# Altium footprint library lib_footprint.PcbLib: 22 footprints (part 1 of 2)
Each footprint in its own frame and in the unit in brackets; x right, y up, seen from the top. Pads: shape width x height; smd on the part's side, far side on the other; paste and mask are expansions set on the pad; w line width, h text height; cw(c..) or ccw(c..) is an arc to the next point about the centre after c.
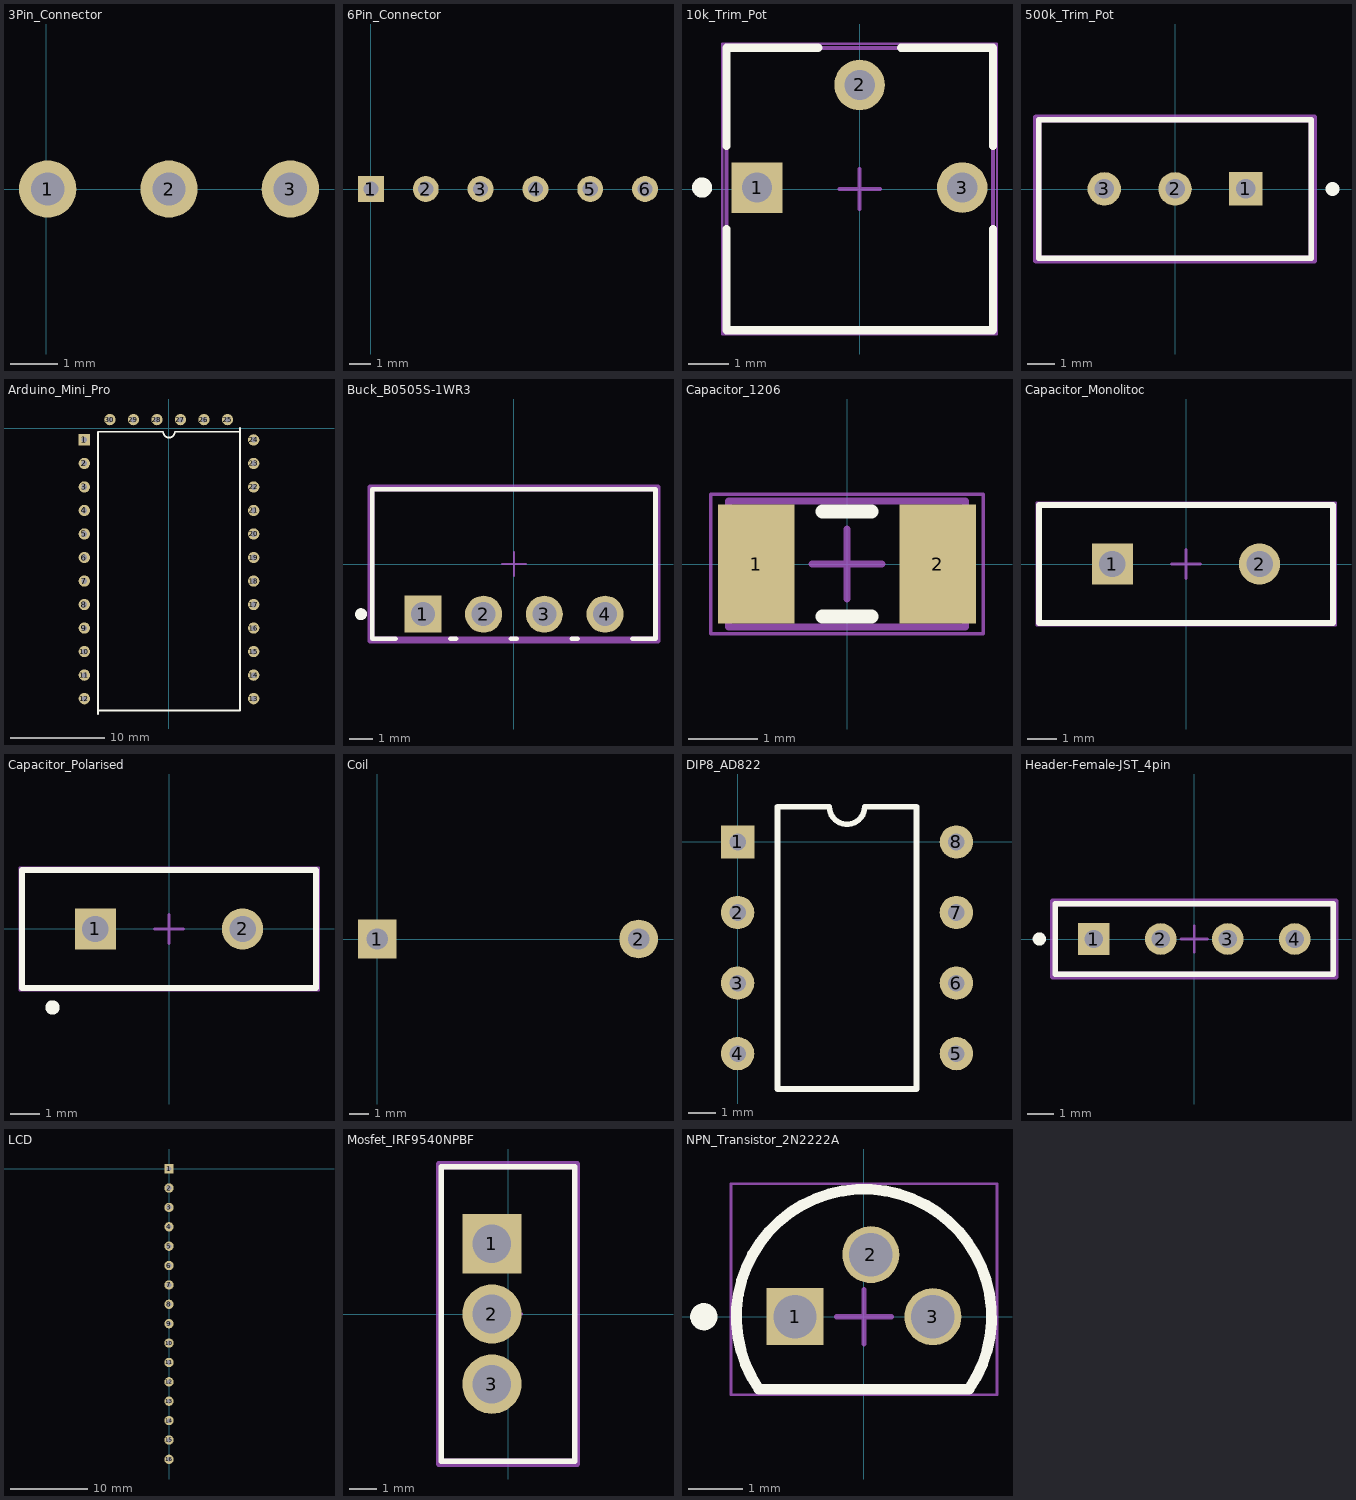
[diagram p0: the footprints below, top view; thin cyan lines are the x and y axes]

## 3Pin_Connector [mm]
pads (3):
  round 1.2 hole 0.7 paste-2539.97 mask+0: 1(0.025,0) 2(2.565,0) 3(5.105,0)

## 6Pin_Connector [mm]
pads (6):
  rect 1.2x1.2 hole 0.7 paste-2539.97 mask+0: 1(0,0)
  round 1.2 hole 0.7 paste-2539.97 mask+0: 2(2.54,0) 3(5.08,0) 4(7.62,0) 5(10.16,0) 6(12.7,0)

## 10k_Trim_Pot [mm]
height 4.95
pads (3):
  rect 1.25x1.25 hole 0.75: 1(-2.54,0.035)
  round 1.25 hole 0.75: 2(0,2.575) 3(2.54,0.035)
Top Overlay:
  circle w0.25: c-3.9,0.035 r0.125
  lines w0.2: -3.3,-0.99 -3.3,-3.495 3.3,-3.495 3.3,-0.99 ; -3.3,1.06 -3.3,3.495 -1.025,3.495 ; 1.025,3.495 3.3,3.495 3.3,1.06
Top 3D Body:
  lines w0.1: -3.3,-3.495 -3.3,3.495 3.3,3.495 3.3,-3.495 -3.3,-3.495
Top Courtyard:
  lines w0.05: -3.4,-3.595 3.4,-3.595 3.4,3.595 -3.4,3.595 -3.4,-3.595
  lines w0.1: -0.5,0 0.5,0 ; 0,-0.5 0,0.5
3D body: height 4.95, standoff 0, extent -3.299,-3.494 3.299,3.494

## 500k_Trim_Pot [mm]
pads (3):
  rect 1.2x1.2 hole 0.7 paste-2539.97 mask+0: 1(2.54,0.005)
  round 1.2 hole 0.7 paste-2539.97 mask+0: 2(0,0.005) 3(-2.54,0.005)
Top Overlay:
  circle w0.25: c5.65,0 r0.125
  lines w0.2: -4.89,-2.48 -4.89,2.48 4.89,2.48 4.89,-2.48 -4.89,-2.48
Top Assembly:
  lines w0.2: -4.99,-2.58 -4.99,2.58 4.99,2.58 4.99,-2.58 -4.99,-2.58
  text ".Designator" at 0,-0.001 h1
Top 3D Body:
  lines w0.2: -4.89,-2.48 -4.89,2.48 4.89,2.48 4.89,-2.48 -4.89,-2.48
Top Courtyard:
  lines w0.2: -4.99,-2.58 -4.99,2.58 4.99,2.58 4.99,-2.58 -4.99,-2.58
Top Component Center:
  lines w0.1: -0.5,0 0.5,0 ; 0,-0.5 0,0.5
3D body "Res_Bourns_3296W-1-504LF_eec.STEP": height 0.25, standoff 0, extent -4.99,-2.58 4.99,2.58

## Arduino_Mini_Pro [mm]
pads (30):
  rect 1.2x1.2 hole 0.6: 1(-8.992,-1.245)
  round 1.2 hole 0.6: 2(-8.992,-3.745) 3(-8.992,-6.245) 4(-8.992,-8.745) 5(-8.992,-11.245) 6(-8.992,-13.745) 7(-8.992,-16.245) 8(-8.992,-18.745) 9(-8.992,-21.245) 10(-8.992,-23.745) 11(-8.992,-26.245) 12(-8.992,-28.745) 13(9.008,-28.745) 14(9.008,-26.245) 15(9.008,-23.745) 16(9.008,-21.245) 17(9.008,-18.745) 18(9.008,-16.245) 19(9.008,-13.745) 20(9.008,-11.245) 21(9.008,-8.745) 22(9.008,-6.245) 23(9.008,-3.745) 24(9.008,-1.245) 25(6.226,0.906) 26(3.726,0.906) 27(1.226,0.906) 28(-1.274,0.906) 29(-3.774,0.906) 30(-6.274,0.906)
Top Overlay:
  lines w0.2: -7.557,-30.376 -7.557,-0.376 -0.617,-0.376 ccw(c0.008,-0.376) 0.633,-0.376 7.573,-0.376 ; -7.557,-29.995 7.573,-29.995 7.573,0.005

## Buck_B0505S-1WR3 [mm]
pads (4):
  rect 1.55x1.55 hole 1 paste-2539.97 mask+0: 1(-3.81,-2.1)
  round 1.55 hole 1 paste-2539.97 mask+0: 2(-1.27,-2.1) 3(1.27,-2.1) 4(3.81,-2.1)
Top Overlay:
  circle w0.25: c-6.4,-2.1 r0.125
  lines w0.2: -4.96,-3.125 -5.925,-3.125 -5.925,3.125 5.925,3.125 5.925,-3.125 4.96,-3.125 ; -2.66,-3.125 -2.42,-3.125 ; -0.12,-3.125 0.12,-3.125 ; 2.42,-3.125 2.66,-3.125
Top Assembly:
  lines w0.2: -6.025,-3.225 -6.025,3.225 6.025,3.225 6.025,-3.225 -6.025,-3.225
  text ".Designator" at 0,0.188 h1
Top 3D Body:
  lines w0.2: -5.925,-3.125 -5.925,3.125 5.925,3.125 5.925,-3.125 -5.925,-3.125
Top Courtyard:
  lines w0.2: -6.025,-3.225 -6.025,3.225 6.025,3.225 6.025,-3.225 -6.025,-3.225
Top Component Center:
  lines w0.1: -0.5,0 0.5,0 ; 0,-0.5 0,0.5
3D body "IC_MORNSUN_B0505S-1WR3_eec.STEP": height 0.25, standoff 0, extent -6.025,-3.225 6.025,3.225

## Capacitor_1206 [mm] "SMD, 2-Leads, Body 3.4x1.8mm, IPC High Density"
height 0.88
pads (2):
  rect 1.1x1.7 smd: 1(-1.3,0) 2(1.3,0)
Top Overlay:
  lines w0.2: -0.35,-0.75 0.35,-0.75 ; -0.35,0.75 0.35,0.75
Top 3D Body:
  lines w0.1: -1.7,-0.9 1.7,-0.9 1.7,0.9 -1.7,0.9 -1.7,-0.9
Top Courtyard:
  lines w0.05: -1.95,-1 1.95,-1 1.95,1 -1.95,1 -1.95,-1
  lines w0.1: -0.5,0 0.5,0 ; 0,-0.5 0,0.5
3D body: height 0.88, standoff 0, extent 1.2,-0.9 1.7,0.9
3D body: height 0.88, standoff 0, extent -1.7,-0.9 -1.2,0.9
3D body: height 0.88, standoff 0, extent -1.2,-0.9 1.2,0.9

## Capacitor_Monolitoc [mm]
height 13
pads (2):
  rect 1.4x1.4 hole 0.9: 1(-2.5,0)
  round 1.4 hole 0.9: 2(2.5,0)
Top Overlay:
  lines w0.2: -5,-2 5,-2 5,2 -5,2 -5,-2
Top 3D Body:
  lines w0.1: -5,-2 -5,2 5,2 5,-2 -5,-2
Top Courtyard:
  lines w0.05: -5.1,-2.1 -5.1,2.1 5.1,2.1 5.1,-2.1 -5.1,-2.1
  lines w0.1: -0.5,0 0.5,0 ; 0,-0.5 0,0.5
3D body: height 13, standoff 3, extent -5,-2 4.999,2

## Capacitor_Polarised [mm]
height 13
pads (2):
  rect 1.4x1.4 hole 0.9: 1(-2.5,0)
  round 1.4 hole 0.9: 2(2.5,0)
Top Overlay:
  circle w0.254: c-3.962,-2.667 r0.114
  lines w0.2: -5,-2 5,-2 5,2 -5,2 -5,-2
Top 3D Body:
  lines w0.1: -5,-2 -5,2 5,2 5,-2 -5,-2
Top Courtyard:
  lines w0.05: -5.1,-2.1 -5.1,2.1 5.1,2.1 5.1,-2.1 -5.1,-2.1
  lines w0.1: -0.5,0 0.5,0 ; 0,-0.5 0,0.5
3D body: height 13, standoff 3, extent -5,-2 4.999,2

## Coil [mm]
pads (2):
  rect 2x2 hole 1.1: 1(0,0)
  round 2 hole 1.1: 2(13.5,0)

## Diode_UF5408 [mm]

## DIP8_AD822 [mm]
pads (8):
  rect 1.2x1.2 hole 0.6: 1(0,0)
  round 1.2 hole 0.6: 2(0,-2.54) 3(0,-5.08) 4(0,-7.62) 5(7.87,-7.62) 6(7.87,-5.08) 7(7.87,-2.54) 8(7.87,0)
Top Overlay:
  lines w0.2: 1.435,-8.89 6.435,-8.89 6.435,1.27 4.57,1.27 cw(c3.935,1.27) 3.3,1.27 1.435,1.27 1.435,-8.89

## Header-Female-JST_4pin [mm]
pads (4):
  rect 1.2x1.2 hole 0.7 paste-2539.97 mask+0: 1(-3.81,0)
  round 1.2 hole 0.7 paste-2539.97 mask+0: 2(-1.27,0) 3(1.27,0) 4(3.81,0)
Top Overlay:
  circle w0.25: c-5.87,0 r0.125
  lines w0.2: -5.27,-1.335 5.27,-1.335 5.27,1.335 -5.27,1.335 -5.27,-1.335
Top Assembly:
  lines w0.2: -5.37,-1.435 5.37,-1.435 5.37,1.435 -5.37,1.435 -5.37,-1.435
  text ".Designator" at 0,0.188 h1
Top 3D Body:
  lines w0.2: -5.27,-1.335 5.27,-1.335 5.27,1.335 -5.27,1.335 -5.27,-1.335
Top Courtyard:
  lines w0.2: -5.37,-1.435 5.37,-1.435 5.37,1.435 -5.37,1.435 -5.37,-1.435
Top Component Center:
  lines w0.1: -0.5,0 0.5,0 ; 0,-0.5 0,0.5
3D body "Conn_Samtec_SS-104-G-2_eec.STEP": height 0.25, standoff 0, extent -5.37,-1.435 5.37,1.435

## LCD [mm]
pads (16):
  rect 1.2x1.2 hole 0.6: 1(0,0)
  round 1.2 hole 0.6: 2(0,-2.5) 3(0,-5) 4(0,-7.5) 5(0,-10) 6(0,-12.5) 7(0,-15) 8(0,-17.5) 9(0,-20) 10(0,-22.5) 11(0,-25) 12(0,-27.5) 13(0,-30) 14(0,-32.5) 15(0,-35) 16(0,-37.5)

## Mosfet_IRF9540NPBF [mm]
pads (3):
  rect 2.15x2.15 hole 1.4 paste-2539.97 mask+0: 1(-0.583,2.54)
  round 2.15 hole 1.4 paste-2539.97 mask+0: 2(-0.583,0) 3(-0.583,-2.54)
Top Overlay:
  lines w0.2: -2.415,-5.335 2.415,-5.335 2.415,5.335 -2.415,5.335 -2.415,-5.335
Top Assembly:
  lines w0.2: -2.515,-5.435 2.515,-5.435 2.515,5.435 -2.515,5.435 -2.515,-5.435
  text ".Designator" at 0,-0.001 h1
Top 3D Body:
  lines w0.2: -2.415,-5.335 2.415,-5.335 2.415,5.335 -2.415,5.335 -2.415,-5.335
Top Courtyard:
  lines w0.2: -2.515,-5.435 2.515,-5.435 2.515,5.435 -2.515,5.435 -2.515,-5.435
Top Component Center:
  lines w0.1: -0.5,0 0.5,0 ; 0,-0.5 0,0.5
3D body "Trans_Infineon_IRF540ZLPBF_eec.STEP": height 0.25, standoff 0, extent -2.515,-5.435 2.515,5.435

## NPN_Transistor_2N2222A [mm]
height 7.87
pads (3):
  rect 1.05x1.05 hole 0.8: 1(-1.27,0)
  round 1.05 hole 0.8: 2(0.127,1.143) 3(1.27,0)
Top Overlay:
  circle w0.25: c-2.95,0 r0.125
  lines w0.2: -1.934,-1.335 cw(c0,0) 1.934,-1.335 -1.934,-1.335
Top 3D Body:
  lines w0.1: -1.934,-1.335 cw(c0,0) 1.934,-1.335 -1.934,-1.335
Top Courtyard:
  lines w0.05: -2.45,-1.435 2.45,-1.435 2.45,2.45 -2.45,2.45 -2.45,-1.435
  lines w0.1: -0.5,0 0.5,0 ; 0,-0.5 0,0.5
3D body: height 7.87, standoff 2.54, extent -2.349,-1.334 2.357,2.359